# Altium schematic symbol library Max11043.SchLib: 1 symbol
Pins are listed as number, name and electrical type; pins without a type are passive.

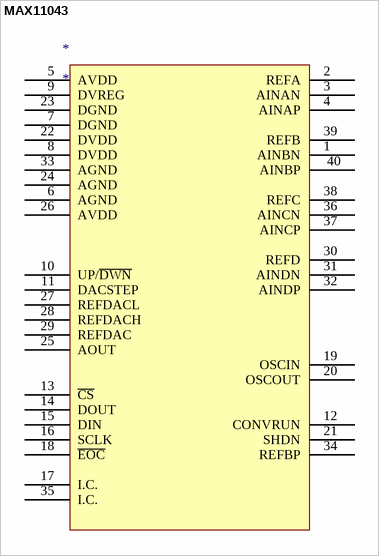
[diagram p0: symbol MAX11043]

## MAX11043
designator *
pins: 1 AINBN "Channel B Analog Negative Input", 2 REFA "Channel A Reference Bypass. Bypass REFA with a nominal 1µF capacitor to AGND.", 3 AINAN "Channel A Analog Negative Input", 4 AINAP "Channel A Analog Positive Input", 5 AVDD "Analog Supply. Bypass each AVDD with a nominal 1µF capacitor to AGND", 6 AGND "Analog Ground. Connect AGND inputs together.", 7 DGND "Digital Ground. Connect DGND inputs together", 8 DVDD "Digital Supply. Bypass each DVDD with a nominal 1µF capacitor to DGND", 9 DVREG "Regulated Digital Core Supply. Bypass DVREG to DGND with a 10uF capacitor", 10 UP/~{DWN} "DAC Step Direction Select. Drive high to step up, drive low to step down when DACSTEP is toggled", 11 DACSTEP "DAC Step Input. Drive high to move the DAC output in the direction of UP/DWN on the next rising  edge of the system clock.", 12 CONVRUN "Convert Run. Drive high to start continuous conversions on all 4 channels. The device is idle when  CONVRUN is low.", 13 ~{CS}, 14 DOUT, 15 DIN, 16 SCLK, 17 I.C. "Internally Connected. Connect to either AGND or DGND", 18 ~{EOC} "Active-Low End-of-Conversion Indicator. EOC asserts low to indicate that new data is ready.", 19 OSCIN "Crystal Oscillator/External Clock Input", 20 OSCOUT "Crystal-Oscillator Output. Leave unconnected when using external clock", 21 SHDN "Active-High Shutdown Input. Drive high to shut down the MAX11043.", 22 DVDD "Digital Supply. Bypass each DVDD with a nominal 1µF capacitor to DGND", 23 DGND "Digital Ground. Connect DGND inputs together", 24 AGND "Analog Ground. Connect AGND inputs together.", 25 AOUT "Buffered 12-Bit Fine DAC Output", 26 AVDD "Analog Supply. Bypass each AVDD with a nominal 1µF capacitor to AGND", 27 REFDACL "Fine DAC Low Reference Bypass. Bypass REFDACL with a nominal 1µF capacitor to AGND.", 28 REFDACH "Fine DAC High Reference Bypass. Bypass REFDACH with a nominal 1µF capacitor to AGND..", 29 REFDAC "Coarse DAC Reference Bypass. Bypass REFDAC with a nominal 1µF capacitor to AGND.", 30 REFD "Channel D Reference Bypass. Bypass REFD with a nominal 1µF capacitor to AGND.", 31 AINDN "Channel D Analog Negative Input", 32 AINDP "Channel D Analog Positive Input", 33 AGND "Analog Ground. Connect AGND inputs together.", 34 REFBP "Main Reference Bypass. Bypass REFBP with a nominal 1µF capacitor to AGND.", 35 I.C. "Internally Connected. Connect to either AGND or DGND", 36 AINCN "Channel C Analog Negative Input", 37 AINCP "Channel C Analog Positive Input", 38 REFC "Channel C Reference Bypass. Bypass REFC with a nominal 1µF capacitor to AGND.", 39 REFB "Channel B Reference Bypass. Bypass REFB with a nominal 1µF capacitor to AGND.",  40 AINBP "Channel B Analog Positive Input"